# Altium footprint library RES TAP2.PcbLib: 1 footprints
Each footprint in its own frame and in the unit in brackets; x right, y up, seen from the top. Pads: shape width x height; smd on the part's side, far side on the other; paste and mask are expansions set on the pad; w line width, h text height; cw(c..) or ccw(c..) is an arc to the next point about the centre after c.
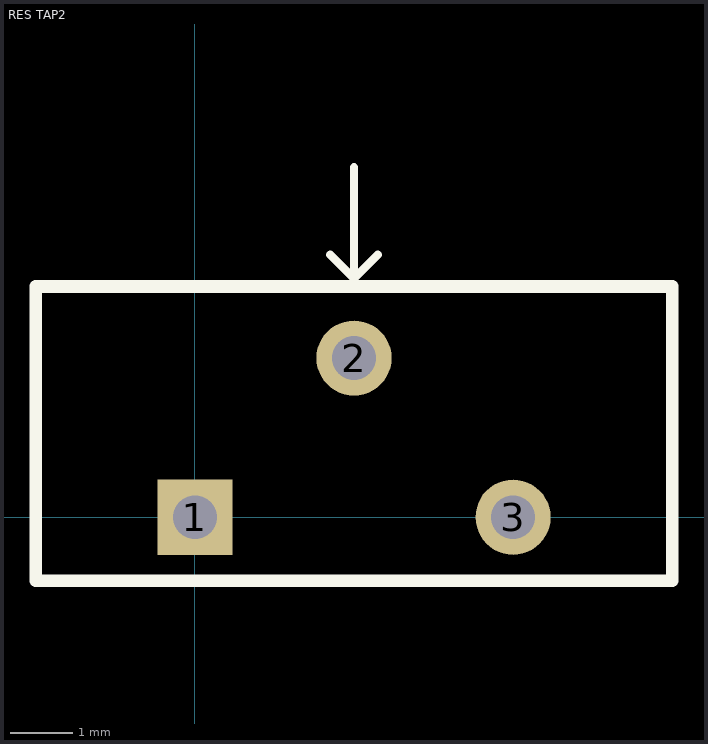
[diagram p0: the footprint, top view; thin cyan lines are the x and y axes]

## RES TAP2 [mm]
pads (3):
  rect 1.2x1.2 hole 0.7: 1(0,0)
  round 1.2 hole 0.7: 2(2.54,2.54) 3(5.08,0)
Top Overlay:
  lines w0.135: 2.159,4.191 2.54,3.81 ; 2.54,5.588 2.54,3.81 ; 2.921,4.191 2.54,3.81
  lines w0.2: -2.54,-1.016 -2.54,3.683 3.683,3.683 7.62,3.683 7.62,-1.016 -2.54,-1.016